# Altium footprint library TS3A24157RSER.PcbLib: 1 footprints
Each footprint in its own frame and in the unit in brackets; x right, y up, seen from the top. Pads: shape width x height; smd on the part's side, far side on the other; paste and mask are expansions set on the pad; w line width, h text height; cw(c..) or ccw(c..) is an arc to the next point about the centre after c.
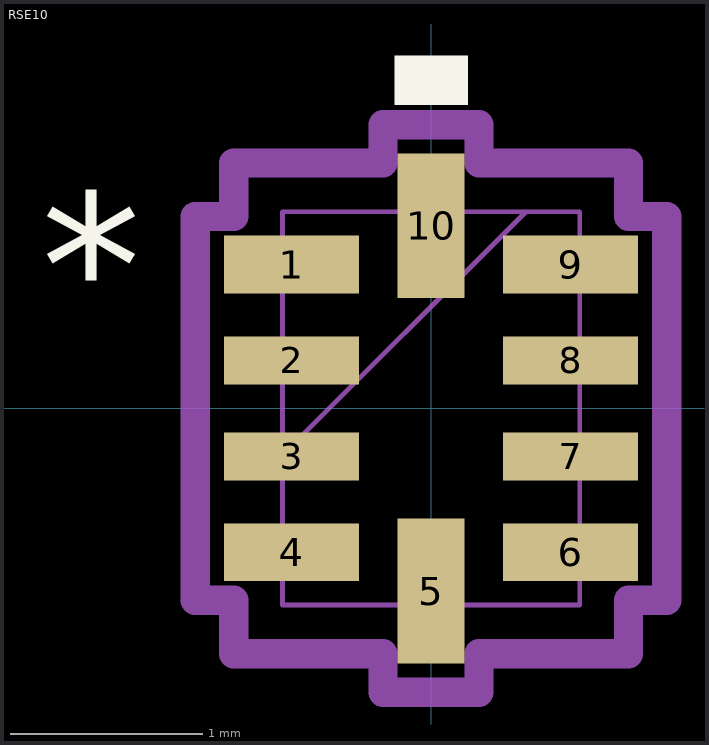
[diagram p0: the footprint, top view; thin cyan lines are the x and y axes]

## RSE10 [mm]
pads (10):
  rect 0.705x0.3 smd mask+0.051: 1(-0.727,0.75) 4(-0.727,-0.75) 6(0.727,-0.75) 9(0.727,0.75)
  rect 0.705x0.25 smd mask+0.051: 2(-0.727,0.25) 3(-0.727,-0.25) 7(0.727,-0.25) 8(0.727,0.25)
  rect 0.35x0.755 smd mask+0.051: 5(0,-0.952) 10(0,0.952)
Top Overlay:
  region: 0.191,1.584 -0.191,1.584 -0.191,1.838 0.191,1.838
  text "*" at -2.032,0.365 h1.27
Mechanical 13:
  lines w0.025: -0.775,-0.245 0.495,1.025 ; -0.775,-1.025 0.775,-1.025 0.775,1.025 -0.775,1.025 -0.775,-1.025 ; -0.775,-0.9 -0.775,-0.6 -0.775,-0.9 ; -0.775,-0.4 -0.775,-0.1 -0.775,-0.4 ; -0.775,0.1 -0.775,0.4 -0.775,0.1 ; -0.775,0.6 -0.775,0.9 -0.775,0.6 ; -0.15,-1.025 0.15,-1.025 -0.15,-1.025 ; -0.15,1.025 0.15,1.025 -0.15,1.025 ; 0.775,-0.9 0.775,-0.6 0.775,-0.9 ; 0.775,-0.4 0.775,-0.1 0.775,-0.4 ; 0.775,0.1 0.775,0.4 0.775,0.1 ; 0.775,0.6 0.775,0.9 0.775,0.6
  text "*" at -2.032,0.381 h1.27
Mechanical 15:
  lines w0.152: -1.229,-1 -1.029,-1 -1.029,-1.279 -0.25,-1.279 -0.25,-1.479 0.25,-1.479 0.25,-1.279 1.029,-1.279 1.029,-1 1.229,-1 1.229,1 1.029,1 1.029,1.279 0.25,1.279 0.25,1.479 -0.25,1.479 -0.25,1.279 -1.029,1.279 -1.029,1 -1.229,1 -1.229,-1
3D body "RSE0010A.stp": height 0.6, standoff 0, extent -0.75,-1 0.75,1